# Altium footprint library Components - 12.09.24 - 00.19.PcbLib: 1 footprints
Each footprint in its own frame and in the unit in brackets; x right, y up, seen from the top. Pads: shape width x height; smd on the part's side, far side on the other; paste and mask are expansions set on the pad; w line width, h text height; cw(c..) or ccw(c..) is an arc to the next point about the centre after c.
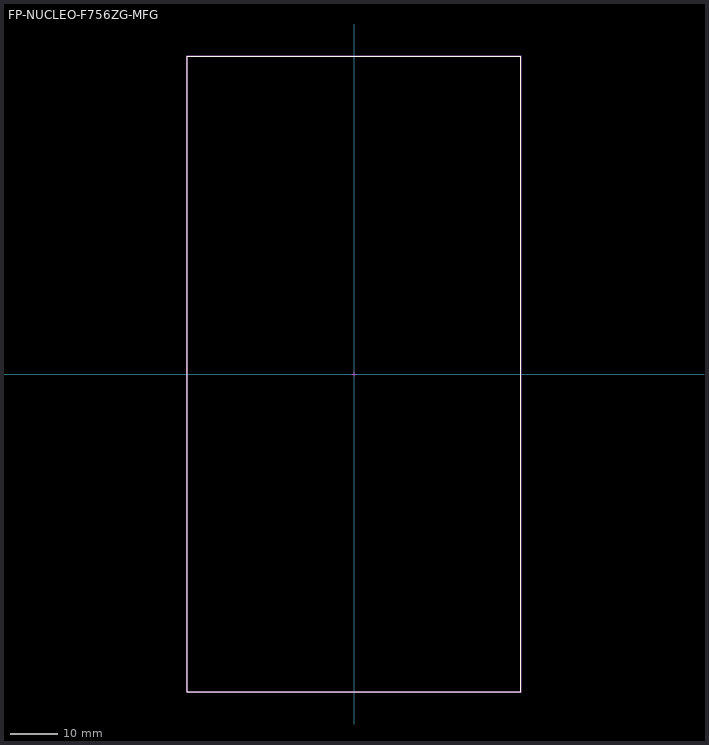
[diagram p0: the footprint, top view; thin cyan lines are the x and y axes]

## FP-NUCLEO-F756ZG-MFG [mm]
Top Overlay:
  lines w0.2: -35,-66.67 -35,66.67 35,66.67 35,-66.67 -35,-66.67
Top Assembly:
  lines w0.2: -35.1,-66.77 -35.1,66.77 35.1,66.77 35.1,-66.77 -35.1,-66.77
  text ".Designator" at 0,-0.001 h1
Top 3D Body:
  lines w0.2: -35,-66.67 -35,66.67 35,66.67 35,-66.67 -35,-66.67
Top Courtyard:
  lines w0.2: -35.1,-66.77 -35.1,66.77 35.1,66.77 35.1,-66.77 -35.1,-66.77
Top Component Center:
  lines w0.1: -0.5,0 0.5,0 ; 0,-0.5 0,0.5
3D body "UNK_STMicroelectronics_NUCLEO-F756ZG_eec.STEP": height 0.25, standoff 0, extent -35.1,-66.77 35.1,66.77